# Altium schematic symbol library SPB_Resistors.SchLib: 57 symbols
Pins are listed as number, name and electrical type; pins without a type are passive.

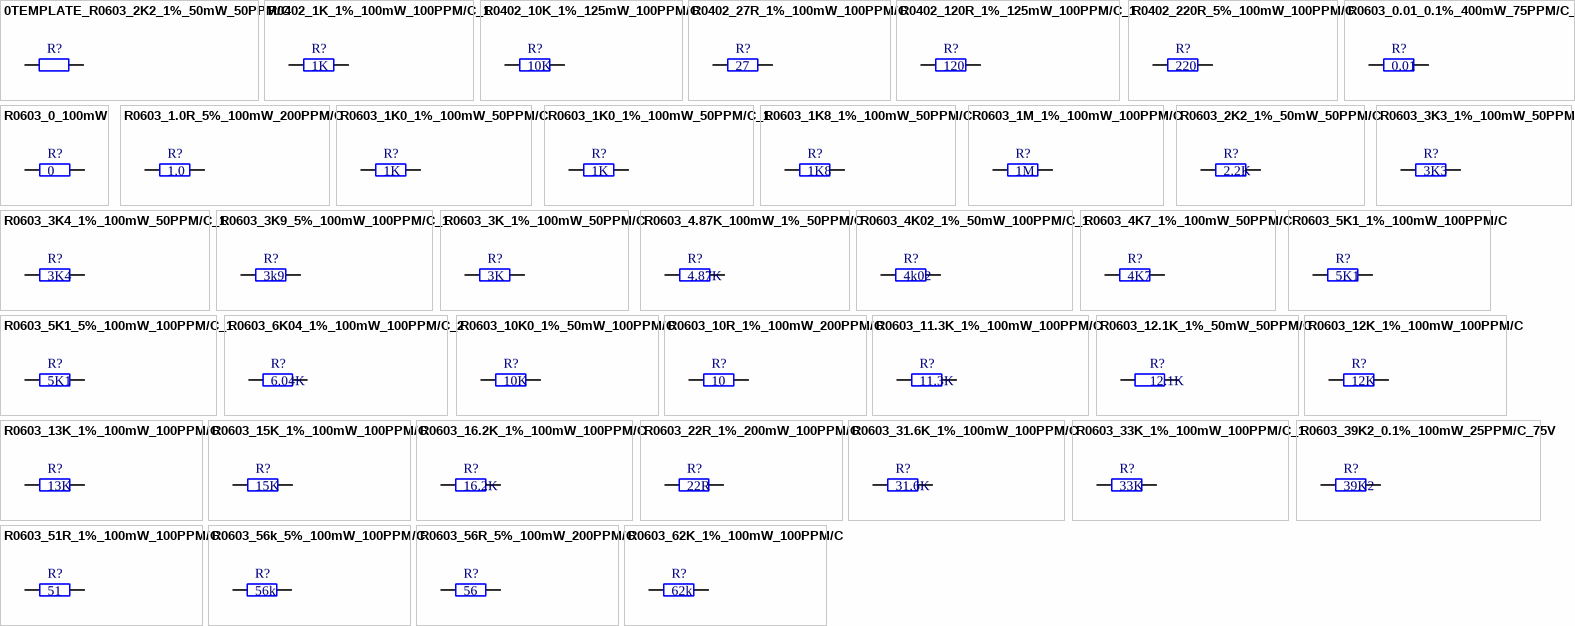
[diagram p0: symbols 0TEMPLATE_R0603_2K2_1%_50mW_50PPM/C to R0603_62K_1%_100mW_100PPM/C]

## 0TEMPLATE_R0603_2K2_1%_50mW_50PPM/C
designator R?
Supplier 1: Digi-Key; Supplier 2: Mouser
footprint R1608[0603] (Chip Resistor, Body 1.6x0.8mm, IPC High Density)
pins: 1, 2

## R0402_1K_1%_100mW_100PPM/C_1
designator R?, comment 1K
RES SMD 1K OHM 1% 1/8W 0402; Manufacturer Part Number: RC0402FR-7W1KL; Value: 1K; Mouser Part #: 603-RC0402FR-7W1KL
footprint R0402-M (Chip resistor, Body 1.0x0.5mm, IPC High Density)
pins: 1, 2

## R0402_10K_1%_125mW_100PPM/C
designator R?, comment 10K
RES SMD 10K OHM 1% 125mW 0402; Manufacturer Part Number: RC0402FR-0710KL; Value: 10K; Mouser Part #: 603-RC0402FR-0710KL
footprint R0402-M (Chip resistor, Body 1.0x0.5mm, IPC High Density)
pins: 1, 2

## R0402_27R_1%_100mW_100PPM/C
designator R?, comment 27
RES SMD 27 OHM 1% 1/10W 0402; Manufacturer Part Number: RC0402FR-0727RL; Value: 27; Mouser Part #: 603-RC0402FR-0727RL
footprint R0402-M (Chip resistor, Body 1.0x0.5mm, IPC High Density)
pins: 1, 2

## R0402_120R_1%_125mW_100PPM/C_1
designator R?, comment 120
RES SMD 120 OHM 1% 125mW 0402; Manufacturer Part Number: RC0402FR-07120RL; Value: 120; Mouser Part #: 603-RC0402FR-07120RL
footprint R0402-M (Chip resistor, Body 1.0x0.5mm, IPC High Density)
pins: 1, 2

## R0402_220R_5%_100mW_100PPM/C
designator R?, comment 220
RES SMD 220 OHM 5% 1/10W 0402; Manufacturer Part Number: RC0402JR-13220RL; Value: 220; Mouser Part #: 603-RC0402JR-13220RL
footprint R0402-M (Chip resistor, Body 1.0x0.5mm, IPC High Density)
pins: 1, 2

## R0603_0.01_0.1%_400mW_75PPM/C_1
designator R?, comment 0.01
Current Sense Resistors - SMD 0.010ohms 1% +/- 75PPM; Manufacturer Part Number: WSLP0603R0100FEA; Value: 0.01; Mouser Part #: 71-WSLP0603R0100FEA
footprint 1608[0603] (Chip Capacitor, Body 1.6x0.8mm, IPC High Density)
footprint R1608[0603] (Chip Resistor, Body 1.6x0.8mm, IPC High Density)
pins: 1, 2

## R0603_0_100mW
designator R?, comment 0
Manufacturer Part Number: RC0603JR-070RL; Value: 0; Mouser Part #: 603-RC0603JR-070RL; Digi-Key Part Number: 311-0.0GRCT-ND
footprint R1608[0603] (Chip Resistor, Body 1.6x0.8mm, IPC High Density)
pins: 1, 2

## R0603_1.0R_5%_100mW_200PPM/C
designator R?, comment 1.0
1 Ohms ±5% 0.1W, 1/10W Chip Resistor 0603 (1608 Metric) Automotive AEC-Q200 Thick Film; Manufacturer Part Number: CRCW06031R00JNEA; Value: 1.0; Digi-Key Part Number: 541-1.0GCT-ND; Mouser Part #: 71-CRCW0603J-1-E3
footprint 1608[0603] (Chip Capacitor, Body 1.6x0.8mm, IPC High Density)
footprint R1608[0603] (Chip Resistor, Body 1.6x0.8mm, IPC High Density)
pins: 1, 2

## R0603_1K0_1%_100mW_50PPM/C
designator R?, comment 1K
Manufacturer Part Number: RT0603FRE071KL; Value: 1K; Mouser Part #: 603-RT0603FRE071KL; Digi-Key Part Number: YAG2323CT-ND
footprint R1608[0603] (Chip Resistor, Body 1.6x0.8mm, IPC High Density)
pins: 1, 2

## R0603_1K0_1%_100mW_50PPM/C_1
designator R?, comment 1K
Manufacturer Part Number: RT0603FRE071KL; Value: 1K; Mouser Part #: 603-RT0603FRE071KL; Digi-Key Part Number: YAG2323CT-ND
footprint R1608[0603] (Chip Resistor, Body 1.6x0.8mm, IPC High Density)
pins: 1, 2

## R0603_1K8_1%_100mW_50PPM/C
designator R?, comment 1K8
1.8 kOhms ±0.1% 0.1W, 1/10W Chip Resistor 0603; Manufacturer Part Number: RT0603FRE071K8L; Value: 1K8; Digi-Key Part Number: YAG1575CT-ND; Mouser Part #: 603-RT0603FRE071K8L
footprint 1608[0603] (Chip Capacitor, Body 1.6x0.8mm, IPC High Density)
footprint R1608[0603] (Chip Resistor, Body 1.6x0.8mm, IPC High Density)
pins: 1, 2

## R0603_1M_1%_100mW_100PPM/C
designator R?, comment 1M
Manufacturer Part Number: RC0603FR-071ML; Value: 1M; Mouser Part #: 603-RC0603FR-071ML; Digi-Key Part Number: 311-1.00MHRCT-ND
footprint 1608[0603] (Chip Capacitor, Body 1.6x0.8mm, IPC High Density)
footprint R1608[0603] (Chip Resistor, Body 1.6x0.8mm, IPC High Density)
pins: 1, 2

## R0603_2K2_1%_50mW_50PPM/C
designator R?, comment 2.2K
Manufacturer Part Number: RT0603FRE072K2L; Value: 2.2K; Mouser Part #: 603-RT0603FRE072K2L
footprint 1608[0603] (Chip Capacitor, Body 1.6x0.8mm, IPC High Density)
footprint R1608[0603] (Chip Resistor, Body 1.6x0.8mm, IPC High Density)
pins: 1, 2

## R0603_3K3_1%_100mW_50PPM/C
designator R?, comment 3K3
Thick Film Resistors 3.3K OHM 1%; Manufacturer Part Number: RC0603FR-073K3L; Value: 3K3; Digi-Key Part Number: 311-3.30KHRCT-ND; Mouser Part #: 603-RC0603FR-073K3L
footprint 1608[0603] (Chip Capacitor, Body 1.6x0.8mm, IPC High Density)
footprint R1608[0603] (Chip Resistor, Body 1.6x0.8mm, IPC High Density)
pins: 1, 2

## R0603_3K4_1%_100mW_50PPM/C_1
designator R?, comment 3K4
3.4 kOhms ±1% 0.1W, 1/10W Chip Resistor 0603; Manufacturer Part Number: RC0603FR-073K4L; Value: 3K4; Mouser Part #: 603-RC0603FR-073K4L; Temperature: -55C : +155C
footprint 1608[0603] (Chip Capacitor, Body 1.6x0.8mm, IPC High Density)
footprint R1608[0603] (Chip Resistor, Body 1.6x0.8mm, IPC High Density)
pins: 1, 2

## R0603_3K9_5%_100mW_100PPM/C_1
designator R?, comment 3k9
3.9 kOhms ±5% 0.1W, 1/10W Chip Resistor 0603 (1608 Metric) Automotive AEC-Q200, Moisture Resistant Thick Film; Manufacturer Part Number: AC0603JR-073K9L; Value: 3k9; Mouser Part #: 603-AC0603JR-073K9L; Digi-Key Part Number: YAG3670CT-ND
footprint 1608[0603] (Chip Capacitor, Body 1.6x0.8mm, IPC High Density)
footprint R1608[0603] (Chip Resistor, Body 1.6x0.8mm, IPC High Density)
pins: 1, 2

## R0603_3K_1%_100mW_50PPM/C
designator R?, comment 3K
3 kOhms ±1% 0.1W, 1/10W Chip Resistor 0603; Manufacturer Part Number: RT0603FRE073KL; Value: 3K; Digi-Key Part Number: YAG1657TR-ND; Mouser Part #: 603-RT0603FRE073KL
footprint 1608[0603] (Chip Capacitor, Body 1.6x0.8mm, IPC High Density)
footprint R1608[0603] (Chip Resistor, Body 1.6x0.8mm, IPC High Density)
pins: 1, 2

## R0603_4.87K_100mW_1%_50PPM/C
designator R?, comment 4.87K
Manufacturer Part Number: RT0603FRE074K87L; Value: 4.87K; Mouser Part #: 603-RT0603FRE074K87L; Temperature: -55C : +155C
footprint 1608[0603] (Chip Capacitor, Body 1.6x0.8mm, IPC High Density)
pins: 1, 2

## R0603_4K02_1%_50mW_100PPM/C_1
designator R?, comment 4k02
Thick Film Resistors - SMD 1/20watt 4.02Kohms 1% 100ppm; Manufacturer Part Number: CRCW02014K02FKED; Value: 4k02; Mouser Part #: 71-CRCW02014K02FKED; Digi-Key Part Number: 541-4.02KAABCT-ND
footprint 1608[0603] (Chip Capacitor, Body 1.6x0.8mm, IPC High Density)
pins: 1, 2

## R0603_4K7_1%_100mW_50PPM/C
designator R?, comment 4K7
Manufacturer Part Number: RT0603FRE074K7L; Value: 4K7; Mouser Part #: 603-RT0603FRE074K7L; Digi-Key Part Number: YAG1238CT-ND
footprint R1608[0603] (Chip Resistor, Body 1.6x0.8mm, IPC High Density)
pins: 1, 2

## R0603_5K1_1%_100mW_100PPM/C
designator R?, comment 5K1
5.1 kOhms ±1% 0.1W, 1/10W Chip Resistor 0603; Manufacturer Part Number: CR0603-FX-5101ELF; Value: 5K1; Mouser Part #: 652-CR0603FX-5101ELF; Digi-Key Part Number: CR0603-FX-5101ELFCT-ND
footprint 1608[0603] (Chip Capacitor, Body 1.6x0.8mm, IPC High Density)
footprint R1608[0603] (Chip Resistor, Body 1.6x0.8mm, IPC High Density)
pins: 1, 2

## R0603_5K1_5%_100mW_100PPM/C_1
designator R?, comment 5K1
5.1 Ohms ±5% 0.1W, 1/10W Chip Resistor 0603 (1608 Metric) Anti-Sulfur, Moisture Resistant Thick Film; Manufacturer Part Number: AF0603JR-075R1L; Value: 5K1; Mouser Part #: 603-AF0603JR-075R1L; Digi-Key Part Number: AF0603JR-075R1L-ND
footprint 1608[0603] (Chip Capacitor, Body 1.6x0.8mm, IPC High Density)
footprint R1608[0603] (Chip Resistor, Body 1.6x0.8mm, IPC High Density)
pins: 1, 2

## R0603_6K04_1%_100mW_100PPM/C_2
designator R?, comment 6.04K
6.04 kOhms ±1% 0.1W, 1/10W Chip Resistor 0603 (1608 Metric) Automotive AEC-Q200, Moisture Resistant Thick Film; Manufacturer Part Number: AC0603FR-076K04L; Value: 6.04K; Mouser Part #: 603-AC0603FR-076K04L; Digi-Key Part Number: AC0603FR-076K04L-ND; Supplier 1: Digi-Key; Supplier part number 1: AC0603FR-076K04L-ND; Supplier part number 2: 603-AC0603FR-076K04L; Supplier 2: Mouser
footprint R1608[0603] (Chip Resistor, Body 1.6x0.8mm, IPC High Density)
pins: 1, 2

## R0603_10K0_1%_50mW_100PPM/C
designator R?, comment 10K
10 kOhms ±1% 0.1W, 1/10W Chip Resistor 0603; Manufacturer Part Number: RC0603FR-0710KL; Value: 10K; Mouser Part #: 603-RC0603FR-0710KL; Digi-Key Part Number: 311-10.0KHRCT-ND
footprint 1608[0603] (Chip Capacitor, Body 1.6x0.8mm, IPC High Density)
footprint R1608[0603] (Chip Resistor, Body 1.6x0.8mm, IPC High Density)
pins: 1, 2

## R0603_10R_1%_100mW_200PPM/C
designator R?, comment 10
Manufacturer Part Number: RC0603FR-1310RL; Value: 10; Mouser Part #: 603-RC0603FR-1310RL
footprint 1608[0603] (Chip Capacitor, Body 1.6x0.8mm, IPC High Density)
pins: 1, 2

## R0603_11.3K_1%_100mW_100PPM/C
designator R?, comment 11.3K
Thick Film Resistors - SMD 11.3K OHM 1%; Manufacturer Part Number: RC0603FR-0711K3L; Value: 11.3K; Mouser Part #: 603-RC0603FR-0711K3L; Digi-Key Part Number: 311-11.3KHRCT-ND
footprint 1608[0603] (Chip Capacitor, Body 1.6x0.8mm, IPC High Density)
pins: 1, 2

## R0603_12.1K_1%_50mW_50PPM/C
designator R?, comment 12.1K
Thick Film Resistors - SMD 0603 12.1Kohms 1% AEC-Q200; Manufacturer Part Number: ERJ-3EKF1212V; Value: 12.1K; Mouser Part #: 667-ERJ-3EKF1212V; Supplier 1: Digi-Key; Supplier Part Number 2: 667-ERJ-3EKF1212V; Supplier 2: Mouser
footprint R1608[0603] (Chip Resistor, Body 1.6x0.8mm, IPC High Density)
pins: 1, 2

## R0603_12K_1%_100mW_100PPM/C
designator R?, comment 12K
12 kOhms ±1% 0.1W, 1/10W Chip Resistor 0603; Manufacturer Part Number: RC0603FR-0712KL; Value: 12K; Mouser Part #: 603-RC0603FR-0712KL; Digi-Key Part Number: 311-12.0KHRCT-ND
footprint 1608[0603] (Chip Capacitor, Body 1.6x0.8mm, IPC High Density)
pins: 1, 2

## R0603_13K_1%_100mW_100PPM/C
designator R?, comment 13K
Thick Film Resistors - SMD 13K OHM 1%; Manufacturer Part Number: RC0603FR-0713KL; Value: 13K; Digi-Key Part Number: 311-13.0KHRCT-ND; Mouser Part #: 603-RC0603FR-0713KL
footprint 1608[0603] (Chip Capacitor, Body 1.6x0.8mm, IPC High Density)
pins: 1, 2

## R0603_15K_1%_100mW_100PPM/C
designator R?, comment 15K
Thick Film Resistors - SMD 15K OHM 1%; Manufacturer Part Number: RC0603FR-0715KL; Value: 15K; Digi-Key Part Number: 311-15.0KHRCT-ND; Mouser Part #: 603-RC0603FR-0715KL
footprint 1608[0603] (Chip Capacitor, Body 1.6x0.8mm, IPC High Density)
pins: 1, 2

## R0603_16.2K_1%_100mW_100PPM/C
designator R?, comment 16.2K
Thick Film 16.2 kOhms ±1% 0.1W, 1/10W Chip Resistor 0603 (1608 Metric) Moisture Resistant; Manufacturer Part Number: RC0603FR-0716K2L; Value: 16.2K; Digi-Key Part Number: 311-16.2KHRCT-ND; Mouser Part #: 603-RC0603FR-0716K2L
footprint 1608[0603] (Chip Capacitor, Body 1.6x0.8mm, IPC High Density)
pins: 1, 2

## R0603_22R_1%_200mW_100PPM/C
designator R?, comment 22R
Manufacturer Part Number: RC0603FR-0722RL; Value: 22R; Mouser Part #: 603-RC0603FR-0722RL; Supplier 1: Digi-Key; Supplier Part Number 2: 603-RC0603FR-0722RL; Supplier 2: Mouser
footprint R1608[0603] (Chip Resistor, Body 1.6x0.8mm, IPC High Density)
pins: 1, 2

## R0603_31.6K_1%_100mW_100PPM/C
designator R?, comment 31.6K
Thick Film Resistors - SMD 1/10watt 31.6Kohms1% 1%; Manufacturer Part Number: CRCW060331K6FKEA; Value: 31.6K; Digi-Key Part Number: 541-31.6KHCT-ND; Mouser Part #: 71-CRCW0603-31.6K-E3
footprint 1608[0603] (Chip Capacitor, Body 1.6x0.8mm, IPC High Density)
pins: 1, 2

## R0603_33K_1%_100mW_100PPM/C_1
designator R?, comment 33K
Thick Film Resistors - SMD 33K ohm 1%; Manufacturer Part Number: CR0603-FX-3302ELF; Value: 33K; Digi-Key Part Number: CR0603-FX-3302ELFCT-ND; Mouser Part #: 652-CR0603FX-3302ELF
footprint 1608[0603] (Chip Capacitor, Body 1.6x0.8mm, IPC High Density)
pins: 1, 2

## R0603_39K2_0.1%_100mW_25PPM/C_75V
designator R?, comment 39K2
39.2 kOhms ±0.1% 0.1W, 1/10W Chip Resistor 0603; Manufacturer Part Number: RT0603BRD0739K2L; Value: 39K2; Mouser Part #: 603-RT0603BRD0739K2L; Digi-Key Part Number: YAG1648CT-ND
footprint 1608[0603] (Chip Capacitor, Body 1.6x0.8mm, IPC High Density)
pins: 1, 2

## R0603_51R_1%_100mW_100PPM/C
designator R?, comment 51
Manufacturer Part Number: RC0603FR-0751RL; Digi-Key Part Number: 311-51.0HRCT-ND; Mouser Part #: 603-RC0603FR-0751RL; Value: 51
footprint R1608[0603] (Chip Resistor, Body 1.6x0.8mm, IPC High Density)
pins: 1, 2

## R0603_56k_5%_100mW_100PPM/C
designator R?, comment 56k
Manufacturer Part Number: RC0603JR-0756KL; Value: 56k; Mouser Part #: 603-RC0603JR-0756KL; Supplier 1: Digi-Key; Supplier Part Number 2: 603-RC0603JR-0756KL; Supplier 2: Mouser
footprint R1608[0603] (Chip Resistor, Body 1.6x0.8mm, IPC High Density)
pins: 1, 2

## R0603_56R_5%_100mW_200PPM/C
designator R?, comment 56
Thick Film Resistors - SMD 1/10watt 56ohms 5%; Manufacturer Part Number: CRCW060356R0JNEA; Value: 56; Digi-Key Part Number: 541-56GCT-ND; Mouser Part #: 71-CRCW0603J-56-E3
footprint 1608[0603] (Chip Capacitor, Body 1.6x0.8mm, IPC High Density)
pins: 1, 2

## R0603_62K_1%_100mW_100PPM/C
designator R?, comment 62k
Thick Film Resistors 62K OHM 1%; Manufacturer Part Number: RC0603FR-0762KL; Value: 62k; Mouser Part #: 603-RC0603FR-0762KL; Digi-Key Part Number: 311-62.0KHRCT-ND
footprint 1608[0603] (Chip Capacitor, Body 1.6x0.8mm, IPC High Density)
pins: 1, 2

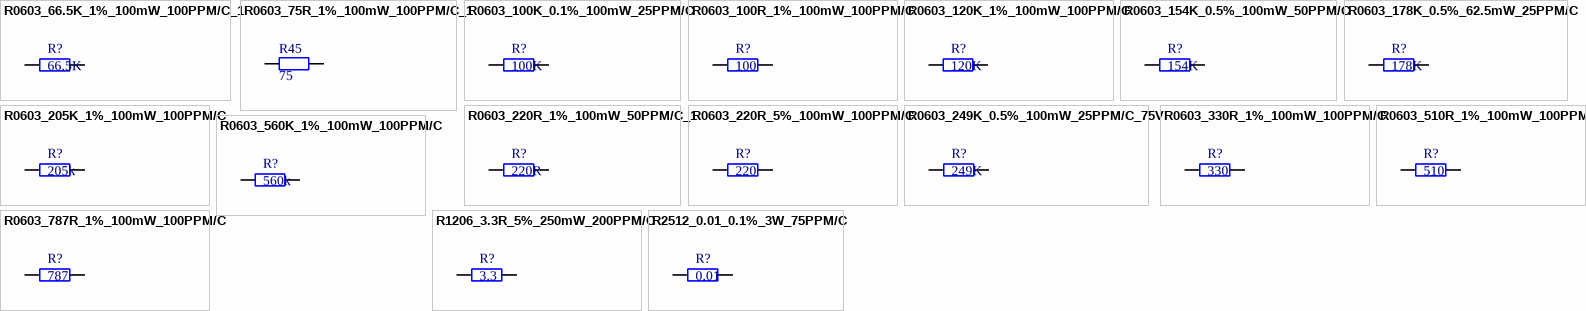
[diagram p1: symbols R0603_66.5K_1%_100mW_100PPM/C_1 to R2512_0.01_0.1%_3W_75PPM/C]

## R0603_66.5K_1%_100mW_100PPM/C_1
designator R?, comment 66.5K
Thick Film Resistors - SMD 66.5K OHM 1%; Manufacturer Part Number: RC0603FR-0766K5L; Value: 66.5K; Mouser Part #: 603-RC0603FR-0766K5L; Digi-Key Part Number: 311-11.3KHRCT-ND
footprint 1608[0603] (Chip Capacitor, Body 1.6x0.8mm, IPC High Density)
pins: 1, 2

## R0603_75R_1%_100mW_100PPM/C_1
designator R45, comment 75
Manufacturer Part Number: RC0603FR-0775RL; Value: 75; Supplier 1: Digi-Key; Supplier 2: Mouser; Supplier Part Number 1: 311-75.0HRCT-ND; Supplier Part Number 2: 603-RC0603FR-0775RL; Mouser Part #: 603-RC0603FR-0775RL
footprint R1608[0603] (Chip Resistor, Body 1.6x0.8mm, IPC High Density)
pins: 1, 2

## R0603_100K_0.1%_100mW_25PPM/C
designator R?, comment 100K
Manufacturer Part Number: RT0603BRD07100KL; Value: 100K; Mouser Part #: 603-RT0603BRD07100KL; Digi-Key Part Number: YAG1235CT-ND
footprint 1608[0603] (Chip Capacitor, Body 1.6x0.8mm, IPC High Density)
pins: 1, 2

## R0603_100R_1%_100mW_100PPM/C
designator R?, comment 100
Manufacturer Part Number: RC0603FR-07100RL; Value: 100; Digi-Key Part Number: 311-100HRCT-ND; Mouser Part #: 603-RC0603FR-07100RL
footprint 1608[0603] (Chip Capacitor, Body 1.6x0.8mm, IPC High Density)
pins: 1, 2

## R0603_120K_1%_100mW_100PPM/C
designator R?, comment 120K
Manufacturer Part Number: RC0603JR-07120KL; Value: 120K; Mouser Part #: 603-RC0603JR-07120KL; Supplier 1: Digi-Key; Supplier Part Number 2: 603-RC0603JR-07120KL; Supplier 2: Mouser
footprint R1608[0603] (Chip Resistor, Body 1.6x0.8mm, IPC High Density)
pins: 1, 2

## R0603_154K_0.5%_100mW_50PPM/C
designator R?, comment 154K
154 kOhms ±0.5% 0.1W, 1/10W Chip Resistor 0603 (1608 Metric)  Thin Film; Manufacturer Part Number: RT0603DRE07154KL; Value: 154K; Mouser Part #: 603-RT0603DRE07154KL; Digi-Key Part Number: 311-2432-1-ND
footprint 1608[0603] (Chip Capacitor, Body 1.6x0.8mm, IPC High Density)
pins: 1, 2

## R0603_178K_0.5%_62.5mW_25PPM/C
designator R?, comment 178K
178 kOhms ±0.5% 0.063W, 1/16W Chip Resistor 0603; Manufacturer Part Number: RR0816P-1783-D-25D; Value: 178K; Mouser Part #: 754-RR0816P-1783D25D; Digi-Key Part Number: RR08P178KDCT-ND
footprint 1608[0603] (Chip Capacitor, Body 1.6x0.8mm, IPC High Density)
pins: 1, 2

## R0603_205K_1%_100mW_100PPM/C
designator R?, comment 205k
Thick Film 16.2 Thick Film Resistors - SMD 205K OHM 1%; Manufacturer Part Number: RC0603FR-07205KL; Value: 205k; Digi-Key Part Number: 311-205KHRCT-ND; Mouser Part #: 603-RC0603FR-07205KL
footprint 1608[0603] (Chip Capacitor, Body 1.6x0.8mm, IPC High Density)
pins: 1, 2

## R0603_220R_1%_100mW_50PPM/C_1
designator R?, comment 220R
Thick Film Resistors - SMD 220 OHM 5%; Manufacturer Part Number: RC0603JR-07220RL; Value: 220R; Mouser Part #: 603-RC0603JR-07220RL
footprint 1608[0603] (Chip Capacitor, Body 1.6x0.8mm, IPC High Density)
footprint R1608[0603] (Chip Resistor, Body 1.6x0.8mm, IPC High Density)
pins: 1, 2

## R0603_220R_5%_100mW_100PPM/C
designator R?, comment 220
RES SMD 220 OHM 5% 1/10W 0603; Manufacturer Part Number: RC0603JR-07220RL; Value: 220; Digi-Key Part Number: 311-220GRCT-ND
footprint R1608[0603] (Chip Resistor, Body 1.6x0.8mm, IPC High Density)
pins: 1, 2

## R0603_249K_0.5%_100mW_25PPM/C_75V
designator R?, comment 249K
Thin Film Resistors - SMD 0603 249Kohms 25ppm 0.5% AEC-Q200; Manufacturer Part Number: ERA-3AED2493V; Value: 249K; Mouser Part #: 667-ERA-3AED2493V; Digi-Key Part Number: -
footprint 1608[0603] (Chip Capacitor, Body 1.6x0.8mm, IPC High Density)
pins: 1, 2

## R0603_330R_1%_100mW_100PPM/C
designator R?, comment 330
Thick Film Resistors - SMD 330 OHM 1%; Manufacturer Part Number: RC0603FR-13330RL; Value: 330; Mouser Part #: 603-RC0603FR-13330RL; Digi-Key Part Number: -
footprint R1608[0603] (Chip Resistor, Body 1.6x0.8mm, IPC High Density)
pins: 1, 2

## R0603_510R_1%_100mW_100PPM/C
designator R?, comment 510
Thick Film Resistors - SMD 510 OHM 1%; Manufacturer Part Number: RC0603FR-07510RL; Value: 510; Mouser Part #: 603-RC0603FR-07510RL; Digi-Key Part Number: 311-510HRCT-ND
footprint 1608[0603] (Chip Capacitor, Body 1.6x0.8mm, IPC High Density)
pins: 1, 2

## R0603_560K_1%_100mW_100PPM/C
designator R?, comment 560k
Thick Film Resistors - SMD 560K ohm 1% 1/10W AEC-Q200; Manufacturer Part Number: AC0603FR-07560KL; Value: 560k; Mouser Part #: 603-AC0603FR-07560KL; Supplier 1: Digi-Key; Supplier Part Number 2: 603-AC0603FR-07560KL; Supplier 2: Mouser
footprint R1608[0603] (Chip Resistor, Body 1.6x0.8mm, IPC High Density)
pins: 1, 2

## R0603_787R_1%_100mW_100PPM/C
designator R?, comment 787
Thick Film Resistors - SMD 787 OHM 1%; Manufacturer Part Number: RC0603FR-07787RL; Value: 787; Mouser Part #: 603-RC0603FR-07787RL
footprint 1608[0603] (Chip Capacitor, Body 1.6x0.8mm, IPC High Density)
pins: 1, 2

## R1206_3.3R_5%_250mW_200PPM/C
designator R?, comment 3.3
Thick Film Resistors - SMD 1/4watt 3.3ohms 5%; Manufacturer Part Number: CRCW060356R0JNEA; Value: 3.3; Digi-Key Part Number: 541-3.3ECT-ND; Mouser Part #: 71-CRCW1206J-3.3-E3
footprint C1206 (Chip Capacitor, Body 3.2x1.6mm, IPC High Density)
pins: 1, 2

## R2512_0.01_0.1%_3W_75PPM/C
designator R?, comment 0.01
Current Sense Resistors - SMD 0.010ohms 1% +/- 75PPM; Manufacturer Part Number: CRA2512-FZ-R010ELF; Value: 0.01; Mouser Part #: 652-CRA2512FZR010ELF; Digi-Key Part Number: CRA2512-FZ-R010ELFCT-ND
footprint R2512M (Chip Resistor, Body 6.3x3.2mm, IPC Low Density)
pins: 1, 2